# Altium schematic symbol library OPA2735.SchLib: 1 symbol
Pins are listed as number, name and electrical type; pins without a type are passive.

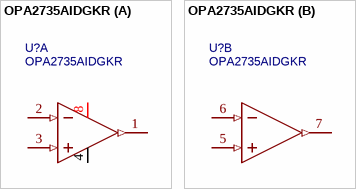
[diagram p0: symbol OPA2735AIDGKR]

## OPA2735AIDGKR
designator U?
双通道 0.05uV/°C（最大值）单电源 CMOS 运算放大器、零温漂系列; subpart_no: 1; Manufacturer: TI(德州仪器); Supplier: LCSC; Supplier Part: C2863113; Manufacturer Part: OPA2735AIDGKR; JLCPCB Part Class: Extended Part; spicePre: U; spiceSymbolName: OPA2735AIDGKR
footprint VSSOP-8_L3.0-W3.0-P0.65-LS4.9-BL
part A pins: 1 OUT A (out), 2 -IN A (in), 3 +IN A (in), 4 V- (power), 8 V+ (power)
part B pins: 5 +IN B (in), 6 -IN B (in), 7 OUT B (out)